# Altium footprint library IM_v1.0.PcbLib: 78 footprints (part 5 of 5)
Each footprint in its own frame and in the unit in brackets; x right, y up, seen from the top. Pads: shape width x height; smd on the part's side, far side on the other; paste and mask are expansions set on the pad; w line width, h text height; cw(c..) or ccw(c..) is an arc to the next point about the centre after c.
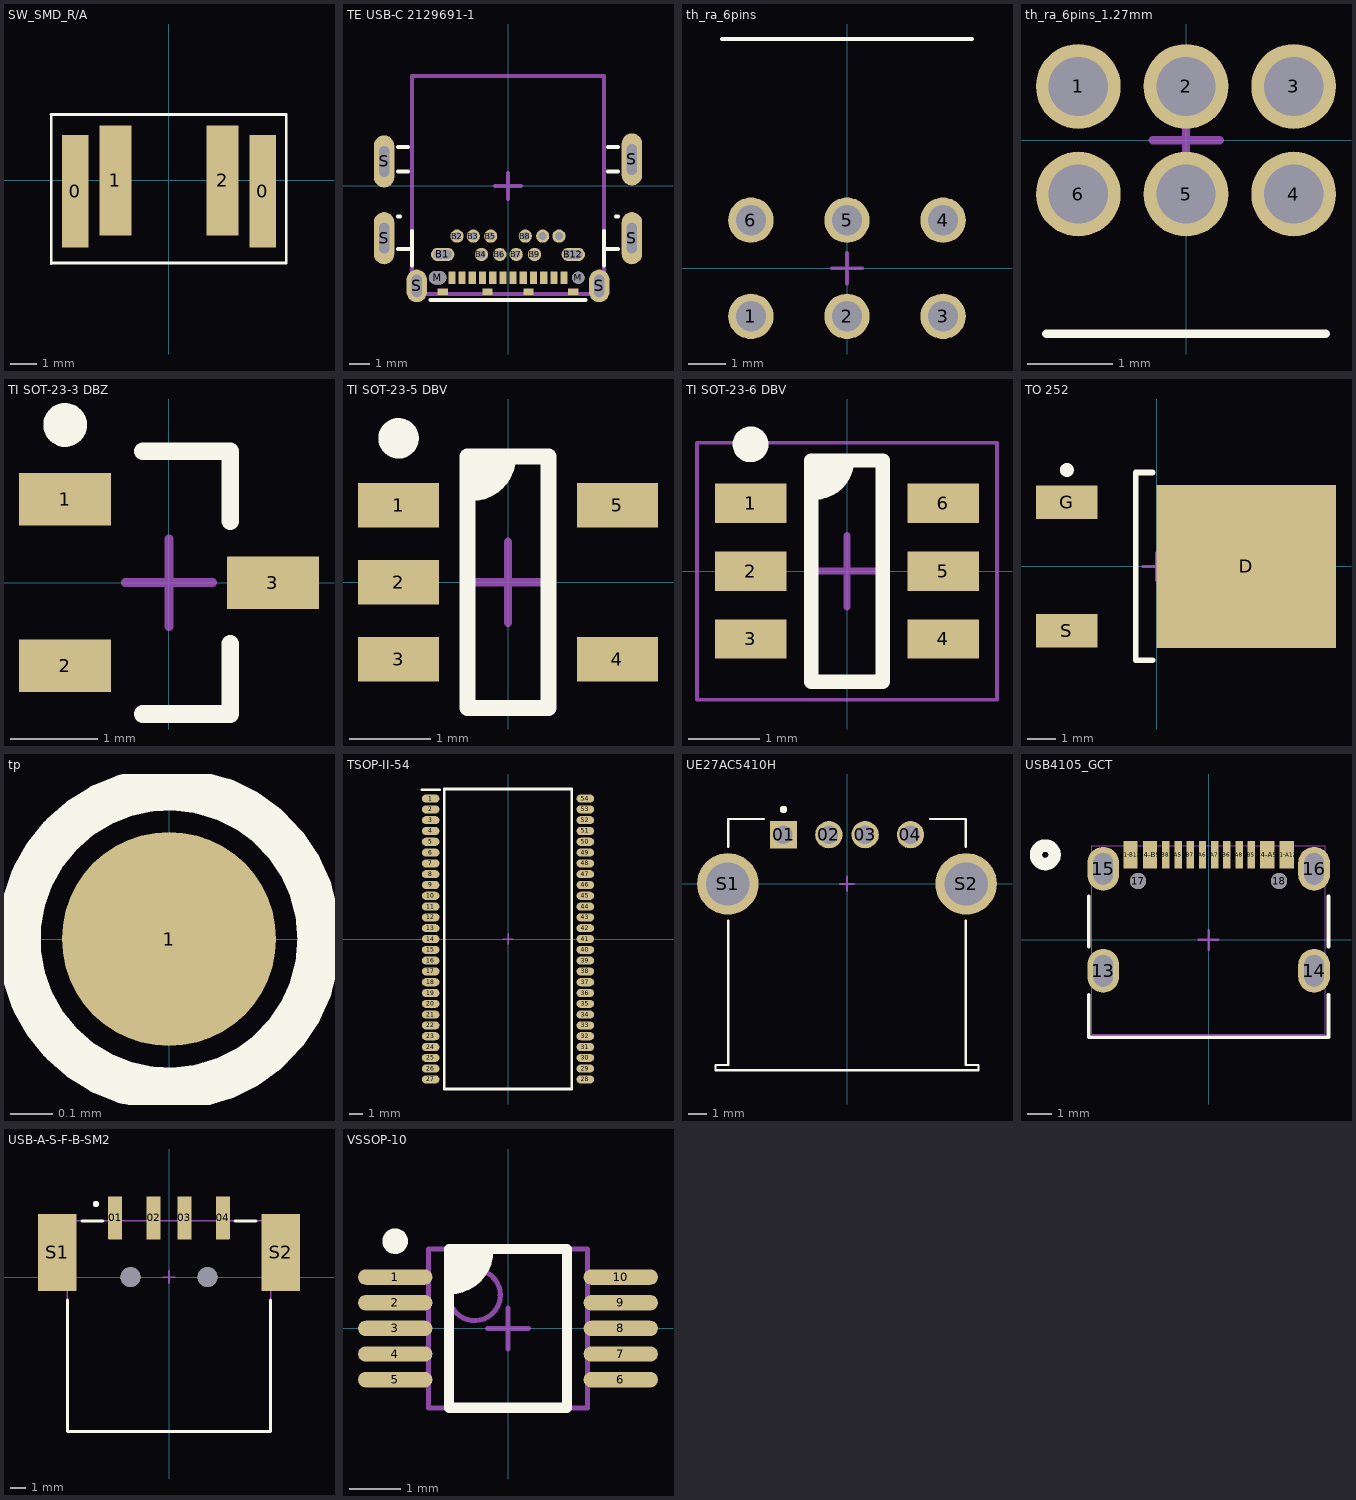
[diagram p4: the footprints below, top view; thin cyan lines are the x and y axes]

## SW_SMD_R/A [mm]
pads (4):
  rect 1x4.2 smd: 0(-3.5,-0.4) 0(3.5,-0.4)
  rect 1.2x4.1 smd: 1(-2,0) 2(2,0)
Top Overlay:
  lines w0.1: -4.4,2.461 -4.403,2.464 4.377,2.464 4.377,-3.083 -2.83,-3.083 -4.383,-3.083 -4.4,-3.1 -4.4,2.461 ; -4.4,2.461 -4.4,2.461
3D body "TL3360DFxxxQ.stp": height 6.57, standoff -0.03, extent -3.885,-7.45 3.885,1.537

## TE USB-C 2129691-1 [mm]
height 2.27
pads (36):
  rect 0.35x0.6 smd: A1(2.75,-4.5) A2(2.25,-4.5) A3(1.75,-4.5) A4(1.25,-4.5) A5(0.75,-4.5) A6(0.25,-4.5) A7(-0.25,-4.5) A8(-0.75,-4.5) A9(-1.25,-4.5) A10(-1.75,-4.5) A11(-2.25,-4.5) A12(-2.75,-4.5)
  oval 1.15x0.65 hole 0.4 slot 0.9 at 0 deg: B1(-3.2,-3.36) B12(3.2,-3.36)
  round 0.65 hole 0.4: B2(-2.5,-2.46) B3(-1.7,-2.46) B4(-1.3,-3.36) B5(-0.85,-2.46) B6(-0.4,-3.36) B7(0.4,-3.36) B8(0.85,-2.46) B9(1.3,-3.36) B10(1.7,-2.46) B11(2.5,-2.46)
  oval 0.85x0.65 hole 0.65 slot 0.85 at 0 deg unplated mask+0.102: M(-3.45,-4.5)
  round 0.6 hole 0.6 unplated mask+0.102: M(3.45,-4.5)
  oval 1x2.56 hole 0.5 slot 1.5 at 90 deg: S(-6.075,-2.56) S(-6.075,1.2) S(6.075,-2.56) S(6.075,1.3)
  oval 1x1.6 hole 0.5 slot 1.1 at 90 deg: S(-4.475,-4.9) S(4.475,-4.9)
  rect 0.5x0.3 smd: S(-3.2,-5.19) S(-1,-5.19) S(1,-5.19) S(3.2,-5.19)
Top Overlay:
  lines w0.2: -5.4,-3.1 -4.7,-3.1 ; -5.4,-1.5 -5.3,-1.5 ; -5.4,0.7 -4.9,0.7 ; -5.4,1.9 -4.9,1.9 ; -4.7,-3.9 -4.7,-2.2 ; -3.8,-5.6 0,-5.6 3.8,-5.6 ; 4.7,-3.9 4.7,-2.2 ; 4.7,-3.1 5.4,-3.1 ; 4.9,0.7 5.4,0.7 ; 4.9,1.9 5.4,1.9 ; 5.3,-1.5 5.4,-1.5
Mechanical 13:
  lines w0.2: -4.7,-5.3 -4.7,5.4 0,5.4 4.7,5.4 4.7,-5.3 0,-5.3 -4.7,-5.3
Mechanical 7:
  lines w0.2: -0.635,0 0.635,0 ; 0,-0.635 0,0.635
3D body "TE USB 2129691-1.STEP": height 2.27, standoff -1.07, extent -6.175,-5.3 6.175,5.4

## th_ra_6pins [mm]
pads (6):
  round 1.2 hole 0.8: 1(-2.54,-1.27) 2(0,-1.27) 3(2.54,-1.27) 4(2.54,1.27) 5(0,1.27) 6(-2.54,1.27)
Top Overlay:
  lines w0.1: -3.31,6.06 3.31,6.06
Mechanical 7:
  lines w0.1: -0.394,-0.002 0.006,-0.002 ; 0,-0.4 0,0 ; 0,0.4 0,0 ; 0.4,0 0,0
3D body "m20-9950345.stp": height 5.09, standoff -2.99, extent -3.81,-1.6 3.81,12.16

## th_ra_6pins_1.27mm [mm]
pads (6):
  round 1 hole 0.7: 1(-1.27,0.635) 2(0,0.635) 3(1.27,0.635) 4(1.27,-0.635) 5(0,-0.635) 6(-1.27,-0.635)
Top Overlay:
  lines w0.1: -1.651,-2.286 1.651,-2.286
Mechanical 7:
  lines w0.1: -0.394,0 0.006,0 ; 0,-0.398 0,0.002 ; 0,0.402 0,0.002 ; 0.4,0.002 0,0.002
3D body "GRPB032MWCN-RC.STEP": height 3.4, standoff -2.49, extent -1.905,-5.283 1.905,0.838

## TI SOT-23-3 DBZ [mm] "SOT23, 3-Leads, Body 2.92x2.37mm, Pitch 0.95mm, IPC Medium Density"
height 1.12
pads (3):
  rect 1.05x0.6 smd: 1(-1.185,0.95) 2(-1.185,-0.95) 3(1.185,0)
Top Overlay:
  circle w0.25: c-1.185,1.8 r0.125
  lines w0.2: -0.3,-1.5 0.7,-1.5 0.7,-0.7 ; -0.3,1.5 0.7,1.5 0.7,0.7
Mechanical 7:
  lines w0.1: -0.5,0 0.5,0 ; 0,-0.5 0,0.5
3D body "TI SOT-23-3 DBZ.step": height 1.12, standoff 0, extent -1.32,-1.52 1.32,1.52

## TI SOT-23-5 DBV [mm] "SOT23, 5-Leads, Body 2.90x2.80mm, Pitch 0.95mm, IPC Medium Density"
height 1.45
pads (5):
  rect 1x0.55 smd: 1(-1.35,0.95) 2(-1.35,0) 3(-1.35,-0.95) 4(1.35,-0.95) 5(1.35,0.95)
Top Overlay:
  circle w0.25: c-1.35,1.775 r0.125
  region: -0.5,1.55 0,1.55 0,1.4 -0.3,1.1 -0.5,1.1
  lines w0.2: -0.5,1.1 -0.45,1.1 ccw(c-0.45,1.55) 0,1.55 ; -0.5,-1.55 -0.5,1.55 0.5,1.55 0.5,-1.55 -0.5,-1.55
Mechanical 7:
  lines w0.1: -0.5,0 0.5,0 ; 0,-0.5 0,0.5
3D body "SOT-23-5.STEP": height 1.5, standoff 0, extent -1.435,-1.425 1.386,1.475

## TI SOT-23-6 DBV [mm] "SOT23, 6-Leads, Body 2.90x2.80mm, Pitch 0.95mm, IPC Medium Density"
height 1.45
pads (6):
  rect 1x0.55 smd: 1(-1.35,0.95) 2(-1.35,0) 3(-1.35,-0.95) 4(1.35,-0.95) 5(1.35,0) 6(1.35,0.95)
Top Overlay:
  circle w0.25: c-1.35,1.775 r0.125
  region: -0.5,1.55 0,1.55 0,1.4 -0.3,1.1 -0.5,1.1
  lines w0.2: -0.5,1.1 -0.45,1.1 ccw(c-0.45,1.55) 0,1.55 ; -0.5,-1.55 0.5,-1.55 0.5,1.55 -0.5,1.55 -0.5,-1.55
Mechanical 7:
  lines w0.05: -2.1,-1.8 -2.1,1.8 2.1,1.8 2.1,-1.8 -2.1,-1.8
  lines w0.1: -0.5,0 0.5,0 ; 0,-0.5 0,0.5
3D body "sot-23-6-vishay.STEP": height 1.45, standoff 0, extent -1.436,-1.525 1.435,1.525

## TO 252 [mm] "DPAK, Body 9.94x6.56mm"
height 2.41
pads (3):
  rect 6.4x5.8 smd: D(3.2,0)
  rect 2.2x1.2 smd: G(-3.2,2.29) S(-3.2,-2.29)
Top Overlay:
  circle w0.25: c-3.2,3.44 r0.125
  lines w0.2: -0.146,-3.35 -0.746,-3.35 -0.746,3.35 -0.146,3.35
Mechanical 7:
  lines w0.1: -0.5,0 0.5,0 ; 0,-0.5 0,0.5
3D body "INFINEON PG-TO 252 GDS FET.step": height 2.41, standoff 0, extent -3.959,-3.375 5.981,3.375

## tp [mm]
pads (1):
  round 0.5 smd: 1(0,0)
Top Overlay:
  circle w0.1: c0,0 r0.35

## TSOP-II-54 [mm]
pads (54):
  oval 1.295x0.6 smd: 1(-5.728,10.4) 2(-5.728,9.6) 3(-5.728,8.8) 4(-5.728,8) 5(-5.728,7.2) 6(-5.728,6.4) 7(-5.728,5.6) 8(-5.728,4.8) 9(-5.728,4) 10(-5.728,3.2) 11(-5.728,2.4) 12(-5.728,1.6) 13(-5.728,0.8) 14(-5.728,0) 15(-5.728,-0.8) 16(-5.728,-1.6) 17(-5.728,-2.4) 18(-5.728,-3.2) 19(-5.728,-4) 20(-5.728,-4.8) 21(-5.728,-5.6) 22(-5.728,-6.4) 23(-5.728,-7.2) 24(-5.728,-8) 25(-5.728,-8.8) 26(-5.728,-9.6) 27(-5.728,-10.4) 28(5.728,-10.4) 29(5.728,-9.6) 30(5.728,-8.8) 31(5.728,-8) 32(5.728,-7.2) 33(5.728,-6.4) 34(5.728,-5.6) 35(5.728,-4.8) 36(5.728,-4) 37(5.728,-3.2) 38(5.728,-2.4) 39(5.728,-1.6) 40(5.728,-0.8) 41(5.728,0) 42(5.728,0.8) 43(5.728,1.6) 44(5.728,2.4) 45(5.728,3.2) 46(5.728,4) 47(5.728,4.8) 48(5.728,5.6) 49(5.728,6.4) 50(5.728,7.2) 51(5.728,8) 52(5.728,8.8) 53(5.728,9.6) 54(5.728,10.4)
Top Overlay:
  lines w0.2: -6.375,11.05 -5.08,11.05 ; -4.73,-11.11 4.73,-11.11 4.73,11.11 -4.73,11.11 -4.73,-11.11
Mechanical 7:
  lines w0.1: -0.4,0 0,0 ; 0,-0.4 0,0 ; 0,0.4 0,0 ; 0.4,0 0,0
3D body "IS42S16400J-7TLI.stp": height 1.2, standoff 0, extent -5.88,-11.11 5.88,11.11

## UE27AC5410H [mm]
pads (6):
  rect 1.508x1.508 / inner round 1.508 / far side rect 1.508x1.508 hole 1: 01(-3.5,2.71)
  round 1.508 hole 1: 02(-1,2.71) 03(1,2.71) 04(3.5,2.71)
  round 3.396 hole 2.38: S1(-6.57,0) S2(6.57,0)
Top Overlay:
  circle w0.2: c-3.5,4.1 r0.1
  lines w0.127: -6.55,-2.03 -6.55,-9.98 -7.25,-9.98 -7.25,-10.28 7.25,-10.28 7.25,-9.98 6.55,-9.98 6.55,-2.03 ; -6.55,2.03 -6.55,3.57 -4.58,3.57 ; 4.58,3.57 6.55,3.57 6.55,2.03
Route Tool Path (Mech13):
  circle w0.2: c-3.5,4.1 r0.1
Mechanical 7:
  lines w0.1: -0.4,0 0,0 ; 0,-0.4 0,0 ; 0,0.4 0,0 ; 0.4,0 0,0
3D body "step_temp.STEP": height 7.63, standoff -3.12, extent -7.424,-10.371 7.424,3.429

## USB4105_GCT [mm]
pads (18):
  oval 1.3x1.8 hole 0.8 slot 1.3 at 90 deg paste-2539.97 mask-0.902: 13(-4.32,-1.269) 14(4.32,-1.269)
  oval 1.3x1.8 hole 0.8 slot 1.3 at 90 deg paste-1.054 mask-1.054: 15(-4.32,2.911)
  oval 1.3x1.8 hole 0.8 slot 1.3 at 90 deg paste-2539.97 mask-1.054: 16(4.32,2.911)
  round 0.66 / inner round 1.524 / far side round 0.66 hole 0.66 unplated paste-2539.97 mask+0: 17(-2.89,2.411) 18(2.89,2.411)
  rect 0.584x1.143 smd paste-0.572 mask-0.572: A1-B12(-3.2,3.486) A4-B9(-2.4,3.486) B1-A12(3.2,3.486) B4-A9(2.4,3.486)
  rect 0.305x1.143 smd paste+0 mask+0: A5(-1.25,3.486) A6(-0.25,3.486) A7(0.25,3.486) A8(1.25,3.486) B5(1.75,3.486) B6(0.75,3.486) B7(-0.75,3.486) B8(-1.75,3.486)
Top Overlay:
  circle w0.508: c-6.693,3.486 r0.381
  lines w0.152: -4.915,-2.252 -4.915,-3.988 4.915,-3.988 4.915,-2.252 ; -4.915,-0.287 -4.915,1.776 ; 4.915,-0.287 4.915,1.776
Bottom Overlay:
  circle w0.508: c-6.693,3.486 r0.381
Mechanical 13:
  lines w0.025: -4.788,-3.861 -4.788,3.861 4.788,3.861 4.788,-3.861 -4.788,-3.861
Mechanical 7:
  lines w0.1: -0.4,0 0,0 ; 0,-0.4 0,0 ; 0,0.4 0,0 ; 0.4,0 0,0
3D body "USB4105-GF-A.STEP": height 3.31, standoff -1.1, extent -4.47,-3.875 4.47,3.835

## USB-A-S-F-B-SM2 [mm]
pads (8):
  rrect4% 0.9x2.8 smd: 01(-3.5,3.85) 02(-1,3.85) 03(1,3.85) 04(3.5,3.85)
  rect 2.5x5 smd: S1(-7.25,1.6) S2(7.25,1.6)
  round 1.3 hole 1.3 unplated: ""(-2.5,0) ""(2.5,0)
Top Overlay:
  circle w0.2: c-4.75,4.75 r0.1
  lines w0.2: -6.6,-1.5 -6.6,-10.05 6.6,-10.05 6.6,-1.5 ; -5.65,3.65 -4.3,3.65 ; 4.3,3.65 5.65,3.65
Mechanical 13:
  lines w0.1: -6.6,-10.05 6.6,-10.05 6.6,3.65 -6.6,3.65 -6.6,-10.05
Route Tool Path (Mech13):
  circle w0.2: c-4.75,4.75 r0.1
  text "PCB EDGE" at -3.5,-9.5 h1.02
Mechanical 7:
  lines w0.1: -0.4,0 0,0 ; 0,-0.4 0,0 ; 0,0.4 0,0 ; 0.4,0 0,0
3D body "USB-A-S-F-B-SM2.stp": height 7.8, standoff -1.1, extent -8.2,-10.025 8.2,4.975

## VSSOP-10 [mm] "TSSOP, 10-Leads, Body 3.00x3.00mm, Pitch 0.50mm, IPC Medium Density"
height 1.1
pads (10):
  oval 1.45x0.3 smd: 1(-2.2,1) 2(-2.2,0.5) 3(-2.2,0) 4(-2.2,-0.5) 5(-2.2,-1) 6(2.2,-1) 7(2.2,-0.5) 8(2.2,0) 9(2.2,0.5) 10(2.2,1)
Top Overlay:
  circle w0.25: c-2.2,1.7 r0.125
  region: -1.15,1.55 -0.407,1.55 -0.402,1.55 -0.392,1.546 -0.385,1.539 -0.381,1.529 -0.381,1.524 -0.381,1.449 -0.41,1.302 -0.468,1.163 -0.551,1.038 -0.657,0.932 -0.782,0.849 -0.921,0.791 -1.068,0.762 -1.143,0.762
  lines w0.2: -1.143,0.762 ccw(c-1.143,1.524) -0.381,1.524 ; -1.15,-1.55 -1.15,1.55 1.15,1.55 1.15,-1.55 -1.15,-1.55
Mechanical 13:
  circle w0.1: c-0.65,0.65 r0.5
  lines w0.1: -1.55,-1.55 1.55,-1.55 1.55,1.55 -1.55,1.55 -1.55,-1.55
Mechanical 7:
  lines w0.1: -0.4,0 0,0 ; 0,-0.4 0,0 ; 0,0.4 0,0 ; 0.4,0 0,0
3D body "TI VSSOP-10 DGS.step": height 1.1, standoff 0, extent -2.45,-1.55 2.45,1.55